# EAGLE library part M4-256B256 (library amd-mach)
AMD MACH SERIES
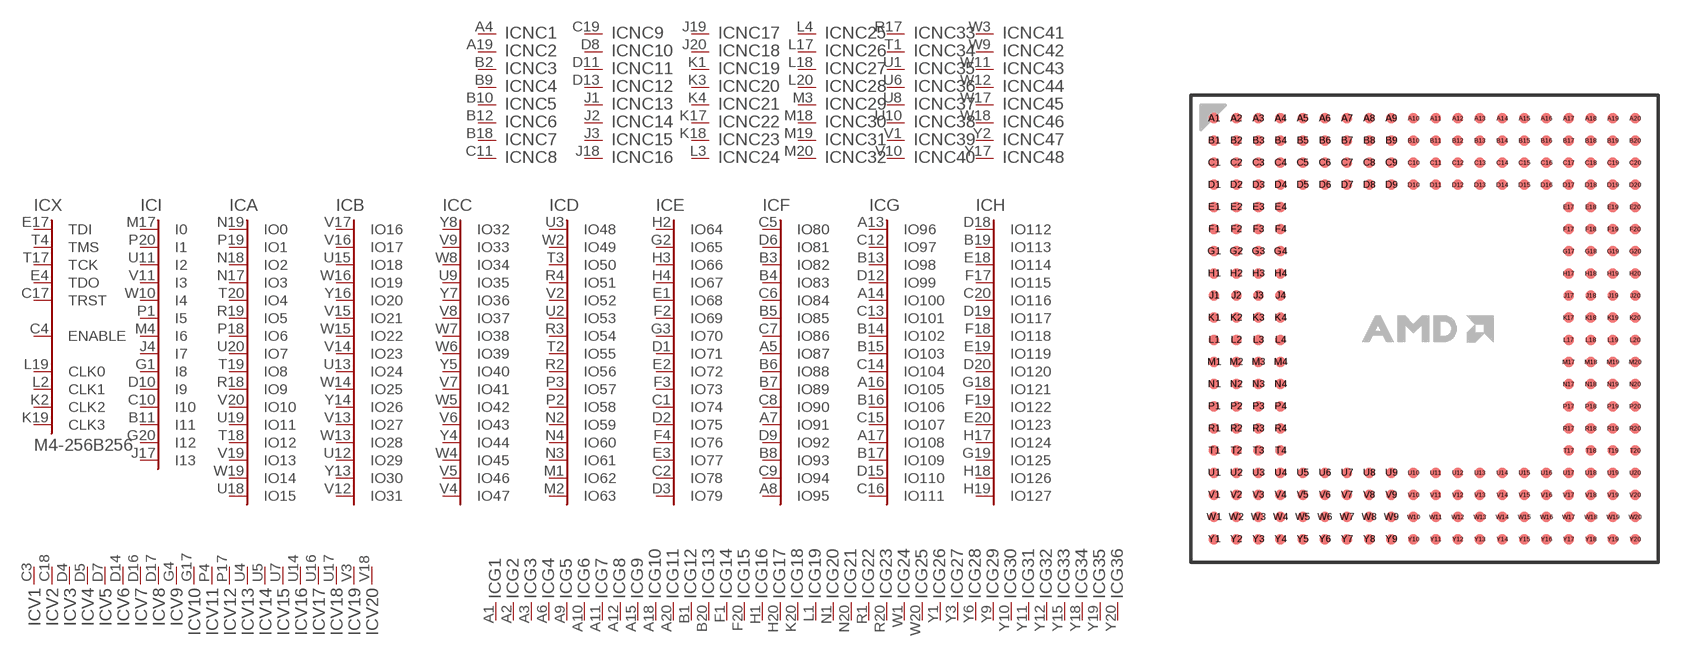
[diagram p14: symbol with the pads of BGA256S; footprint BGA256S]

Designator prefix IC; gates X=M4-256-C A=IO15 B=IO31 C=IO47 D=IO63 E=IO79 F=IO95 G=IO111 H=IO127 I=M4-I13 G1=GND G2=GND G3=GND G4=GND G5=GND G6=GND G7=GND G8=GND G9=GND G10=GND G11=GND G12=GND G13=GND G14=GND G15=GND G16=GND G17=GND G18=GND G19=GND G20=GND G21=GND G22=GND V1=VCC V2=VCC V3=VCC V4=VCC V5=VCC V6=VCC V7=VCC V8=VCC V9=VCC V10=VCC V11=VCC V12=VCC V13=VCC V14=VCC V15=VCC V16=VCC V17=VCC V18=VCC V19=VCC V20=VCC G23=GND G24=GND G25=GND G26=GND G27=GND G28=GND G29=GND G30=GND G31=GND G32=GND NC1=NC NC2=NC NC3=NC NC4=NC NC5=NC NC6=NC NC7=NC NC8=NC NC9=NC NC10=NC NC11=NC NC12=NC NC13=NC NC14=NC NC15=NC NC16=NC NC17=NC NC18=NC NC19=NC NC20=NC NC21=NC NC22=NC NC23=NC NC24=NC NC25=NC NC26=NC NC27=NC NC28=NC NC29=NC NC30=NC NC31=NC NC32=NC NC33=NC NC34=NC NC35=NC NC36=NC NC37=NC NC38=NC NC39=NC NC40=NC NC41=NC NC42=NC NC43=NC NC44=NC NC45=NC NC46=NC NC47=NC NC48=NC G33=GND G34=GND G35=GND G36=GND

## M4-256B256 (OC_FARNELL: unknown; OC_NEWARK: unknown)  [BGA256S]
A1  G1:GND  pwr
A2  G2:GND  pwr
A3  G3:GND  pwr
A4  NC1:NC  nc
A5  F:IO87
A6  G4:GND  pwr
A7  F:IO91
A8  F:IO95
A9  G5:GND  pwr
A10  G6:GND  pwr
A11  G7:GND  pwr
A12  G8:GND  pwr
A13  G:IO96
A14  G:IO100
A15  G9:GND  pwr
A16  G:IO105
A17  G:IO108
A18  G10:GND  pwr
A19  NC2:NC  nc
A20  G11:GND  pwr
B1  G12:GND  pwr
B2  NC3:NC  nc
B3  F:IO82
B4  F:IO83
B5  F:IO85
B6  F:IO88
B7  F:IO89
B8  F:IO93
B9  NC4:NC  nc
B10  NC5:NC  nc
B11  I:I11  in
B12  NC6:NC  nc
B13  G:IO98
B14  G:IO102
B15  G:IO103
B16  G:IO106
B17  G:IO109
B18  NC7:NC  nc
B19  H:IO113
B20  G13:GND  pwr
C1  E:IO74
C2  E:IO78
C3  V1:VCC  pwr
C4  X:ENABLE  in
C5  F:IO80
C6  F:IO84
C7  F:IO86
C8  F:IO90
C9  F:IO94
C10  I:I10  in
C11  NC8:NC  nc
C12  G:IO97
C13  G:IO101
C14  G:IO104
C15  G:IO107
C16  G:IO111
C17  X:TRST  in
C18  V2:VCC  pwr
C19  NC9:NC  nc
C20  H:IO116
D1  E:IO71
D2  E:IO75
D3  E:IO79
D4  V3:VCC  pwr
D5  V4:VCC  pwr
D6  F:IO81
D7  V5:VCC  pwr
D8  NC10:NC  nc
D9  F:IO92
D10  I:I9  in
D11  NC11:NC  nc
D12  G:IO99
D13  NC12:NC  nc
D14  V6:VCC  pwr
D15  G:IO110
D16  V7:VCC  pwr
D17  V8:VCC  pwr
D18  H:IO112
D19  H:IO117
D20  H:IO120
E1  E:IO68
E2  E:IO72
E3  E:IO77
E4  X:TDO  in
E17  X:TDI  in
E18  H:IO114
E19  H:IO119
E20  H:IO123
F1  G14:GND  pwr
F2  E:IO69
F3  E:IO73
F4  E:IO76
F17  H:IO115
F18  H:IO118
F19  H:IO122
F20  G15:GND  pwr
G1  I:I8  in
G2  E:IO65
G3  E:IO70
G4  V9:VCC  pwr
G17  V10:VCC  pwr
G18  H:IO121
G19  H:IO125
G20  I:I12  in
H1  G16:GND  pwr
H2  E:IO64
H3  E:IO66
H4  E:IO67
H17  H:IO124
H18  H:IO126
H19  H:IO127
H20  G17:GND  pwr
J1  NC13:NC  nc
J2  NC14:NC  nc
J3  NC15:NC  nc
J4  I:I7  in
J17  I:I13  in
J18  NC16:NC  nc
J19  NC17:NC  nc
J20  NC18:NC  nc
K1  NC19:NC  nc
K2  X:CLK2  in
K3  NC20:NC  nc
K4  NC21:NC  nc
K17  NC22:NC  nc
K18  NC23:NC  nc
K19  X:CLK3  in
K20  G18:GND  pwr
L1  G19:GND  pwr
L2  X:CLK1  in
L3  NC24:NC  nc
L4  NC25:NC  nc
L17  NC26:NC  nc
L18  NC27:NC  nc
L19  X:CLK0  in
L20  NC28:NC  nc
M1  D:IO62
M2  D:IO63
M3  NC29:NC  nc
M4  I:I6  in
M17  I:I0  in
M18  NC30:NC  nc
M19  NC31:NC  nc
M20  NC32:NC  nc
N1  G20:GND  pwr
N2  D:IO59
N3  D:IO61
N4  D:IO60
N17  A:IO3
N18  A:IO2
N19  A:IO0
N20  G21:GND  pwr
P1  I:I5  in
P2  D:IO58
P3  D:IO57
P4  V11:VCC  pwr
P17  V12:VCC  pwr
P18  A:IO6
P19  A:IO1
P20  I:I1  in
R1  G22:GND  pwr
R2  D:IO56
R3  D:IO54
R4  D:IO51
R17  NC33:NC  nc
R18  A:IO9
R19  A:IO5
R20  G23:GND  pwr
T1  NC34:NC  nc
T2  D:IO55
T3  D:IO50
T4  X:TMS  in
T17  X:TCK  in
T18  A:IO12
T19  A:IO8
T20  A:IO4
U1  NC35:NC  nc
U2  D:IO53
U3  D:IO48
U4  V13:VCC  pwr
U5  V14:VCC  pwr
U6  NC36:NC  nc
U7  V15:VCC  pwr
U8  NC37:NC  nc
U9  C:IO35
U10  NC38:NC  nc
U11  I:I2  in
U12  B:IO29
U13  B:IO24
U14  V16:VCC  pwr
U15  B:IO18
U16  V17:VCC  pwr
U17  V18:VCC  pwr
U18  A:IO15
U19  A:IO11
U20  A:IO7
V1  NC39:NC  nc
V2  D:IO52
V3  V19:VCC  pwr
V4  C:IO47
V5  C:IO46
V6  C:IO43
V7  C:IO41
V8  C:IO37
V9  C:IO33
V10  NC40:NC  nc
V11  I:I3  in
V12  B:IO31
V13  B:IO27
V14  B:IO23
V15  B:IO21
V16  B:IO17
V17  B:IO16
V18  V20:VCC  pwr
V19  A:IO13
V20  A:IO10
W1  G24:GND  pwr
W2  D:IO49
W3  NC41:NC  nc
W4  C:IO45
W5  C:IO42
W6  C:IO39
W7  C:IO38
W8  C:IO34
W9  NC42:NC  nc
W10  I:I4  in
W11  NC43:NC  nc
W12  NC44:NC  nc
W13  B:IO28
W14  B:IO25
W15  B:IO22
W16  B:IO19
W17  NC45:NC  nc
W18  NC46:NC  nc
W19  A:IO14
W20  G25:GND  pwr
Y1  G26:GND  pwr
Y2  NC47:NC  nc
Y3  G27:GND  pwr
Y4  C:IO44
Y5  C:IO40
Y6  G28:GND  pwr
Y7  C:IO36
Y8  C:IO32
Y9  G29:GND  pwr
Y10  G30:GND  pwr
Y11  G31:GND  pwr
Y12  G32:GND  pwr
Y13  B:IO30
Y14  B:IO26
Y15  G33:GND  pwr
Y16  B:IO20
Y17  NC48:NC  nc
Y18  G34:GND  pwr
Y19  G35:GND  pwr
Y20  G36:GND  pwr

## Footprint BGA256S (pad centres in mm)
Ball Grid Array square
smd 0.6 x 0.6: A1 -12.065,12.065; A2 -10.795,12.065; A3 -9.525,12.065; A4 -8.255,12.065; A5 -6.985,12.065; A6 -5.715,12.065; A7 -4.445,12.065; A8 -3.175,12.065; A9 -1.905,12.065; A10 -0.635,12.065; A11 0.635,12.065; A12 1.905,12.065; A13 3.175,12.065; A14 4.445,12.065; A15 5.715,12.065; A16 6.985,12.065; A17 8.255,12.065; A18 9.525,12.065; A19 10.795,12.065; A20 12.065,12.065; B1 -12.065,10.795; B2 -10.795,10.795; B3 -9.525,10.795; B4 -8.255,10.795; B5 -6.985,10.795; B6 -5.715,10.795; B7 -4.445,10.795; B8 -3.175,10.795; B9 -1.905,10.795; B10 -0.635,10.795; B11 0.635,10.795; B12 1.905,10.795; B13 3.175,10.795; B14 4.445,10.795; B15 5.715,10.795; B16 6.985,10.795; B17 8.255,10.795; B18 9.525,10.795; B19 10.795,10.795; B20 12.065,10.795; C1 -12.065,9.525; C2 -10.795,9.525; C3 -9.525,9.525; C4 -8.255,9.525; C5 -6.985,9.525; C6 -5.715,9.525; C7 -4.445,9.525; C8 -3.175,9.525; C9 -1.905,9.525; C10 -0.635,9.525; C11 0.635,9.525; C12 1.905,9.525; C13 3.175,9.525; C14 4.445,9.525; C15 5.715,9.525; C16 6.985,9.525; C17 8.255,9.525; C18 9.525,9.525; C19 10.795,9.525; C20 12.065,9.525; D1 -12.065,8.255; D2 -10.795,8.255; D3 -9.525,8.255; D4 -8.255,8.255; D5 -6.985,8.255; D6 -5.715,8.255; D7 -4.445,8.255; D8 -3.175,8.255; D9 -1.905,8.255; D10 -0.635,8.255; D11 0.635,8.255; D12 1.905,8.255; D13 3.175,8.255; D14 4.445,8.255; D15 5.715,8.255; D16 6.985,8.255; D17 8.255,8.255; D18 9.525,8.255; D19 10.795,8.255; D20 12.065,8.255; E1 -12.065,6.985; E2 -10.795,6.985; E3 -9.525,6.985; E4 -8.255,6.985; E17 8.255,6.985; E18 9.525,6.985; E19 10.795,6.985; E20 12.065,6.985; F1 -12.065,5.715; F2 -10.795,5.715; F3 -9.525,5.715; F4 -8.255,5.715; F17 8.255,5.715; F18 9.525,5.715; F19 10.795,5.715; F20 12.065,5.715; G1 -12.065,4.445; G2 -10.795,4.445; G3 -9.525,4.445; G4 -8.255,4.445; G17 8.255,4.445; G18 9.525,4.445; G19 10.795,4.445; G20 12.065,4.445; H1 -12.065,3.175; H2 -10.795,3.175; H3 -9.525,3.175; H4 -8.255,3.175; H17 8.255,3.175; H18 9.525,3.175; H19 10.795,3.175; H20 12.065,3.175; J1 -12.065,1.905; J2 -10.795,1.905; J3 -9.525,1.905; J4 -8.255,1.905; J17 8.255,1.905; J18 9.525,1.905; J19 10.795,1.905; J20 12.065,1.905; K1 -12.065,0.635; K2 -10.795,0.635; K3 -9.525,0.635; K4 -8.255,0.635; K17 8.255,0.635; K18 9.525,0.635; K19 10.795,0.635; K20 12.065,0.635; L1 -12.065,-0.635; L2 -10.795,-0.635; L3 -9.525,-0.635; L4 -8.255,-0.635; L17 8.255,-0.635; L18 9.525,-0.635; L19 10.795,-0.635; L20 12.065,-0.635; M1 -12.065,-1.905; M2 -10.795,-1.905; M3 -9.525,-1.905; M4 -8.255,-1.905; M17 8.255,-1.905; M18 9.525,-1.905; M19 10.795,-1.905; M20 12.065,-1.905; N1 -12.065,-3.175; N2 -10.795,-3.175; N3 -9.525,-3.175; N4 -8.255,-3.175; N17 8.255,-3.175; N18 9.525,-3.175; N19 10.795,-3.175; N20 12.065,-3.175; P1 -12.065,-4.445; P2 -10.795,-4.445; P3 -9.525,-4.445; P4 -8.255,-4.445; P17 8.255,-4.445; P18 9.525,-4.445; P19 10.795,-4.445; P20 12.065,-4.445; R1 -12.065,-5.715; R2 -10.795,-5.715; R3 -9.525,-5.715; R4 -8.255,-5.715; R17 8.255,-5.715; R18 9.525,-5.715; R19 10.795,-5.715; R20 12.065,-5.715; T1 -12.065,-6.985; T2 -10.795,-6.985; T3 -9.525,-6.985; T4 -8.255,-6.985; T17 8.255,-6.985; T18 9.525,-6.985; T19 10.795,-6.985; T20 12.065,-6.985; U1 -12.065,-8.255; U2 -10.795,-8.255; U3 -9.525,-8.255; U4 -8.255,-8.255; U5 -6.985,-8.255; U6 -5.715,-8.255; U7 -4.445,-8.255; U8 -3.175,-8.255; U9 -1.905,-8.255; U10 -0.635,-8.255; U11 0.635,-8.255; U12 1.905,-8.255; U13 3.175,-8.255; U14 4.445,-8.255; U15 5.715,-8.255; U16 6.985,-8.255; U17 8.255,-8.255; U18 9.525,-8.255; U19 10.795,-8.255; U20 12.065,-8.255; V1 -12.065,-9.525; V2 -10.795,-9.525; V3 -9.525,-9.525; V4 -8.255,-9.525; V5 -6.985,-9.525; V6 -5.715,-9.525; V7 -4.445,-9.525; V8 -3.175,-9.525; V9 -1.905,-9.525; V10 -0.635,-9.525; V11 0.635,-9.525; V12 1.905,-9.525; V13 3.175,-9.525; V14 4.445,-9.525; V15 5.715,-9.525; V16 6.985,-9.525; V17 8.255,-9.525; V18 9.525,-9.525; V19 10.795,-9.525; V20 12.065,-9.525; W1 -12.065,-10.795; W2 -10.795,-10.795; W3 -9.525,-10.795; W4 -8.255,-10.795; W5 -6.985,-10.795; W6 -5.715,-10.795; W7 -4.445,-10.795; W8 -3.175,-10.795; W9 -1.905,-10.795; W10 -0.635,-10.795; W11 0.635,-10.795; W12 1.905,-10.795; W13 3.175,-10.795; W14 4.445,-10.795; W15 5.715,-10.795; W16 6.985,-10.795; W17 8.255,-10.795; W18 9.525,-10.795; W19 10.795,-10.795; W20 12.065,-10.795; Y1 -12.065,-12.065; Y2 -10.795,-12.065; Y3 -9.525,-12.065; Y4 -8.255,-12.065; Y5 -6.985,-12.065; Y6 -5.715,-12.065; Y7 -4.445,-12.065; Y8 -3.175,-12.065; Y9 -1.905,-12.065; Y10 -0.635,-12.065; Y11 0.635,-12.065; Y12 1.905,-12.065; Y13 3.175,-12.065; Y14 4.445,-12.065; Y15 5.715,-12.065; Y16 6.985,-12.065; Y17 8.255,-12.065; Y18 9.525,-12.065; Y19 10.795,-12.065; Y20 12.065,-12.065